# EAGLE library part FH12-9S-1SH (library eric-custom)
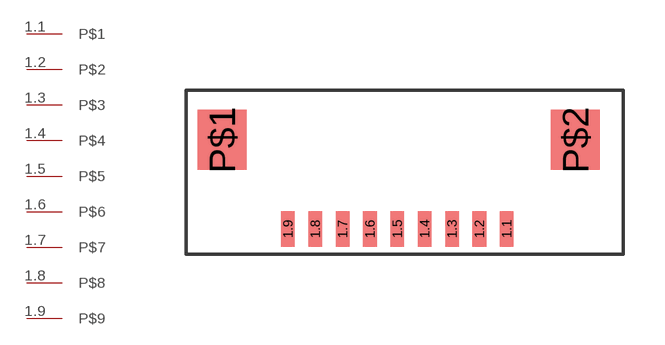
[diagram p20: symbol with the pads of FH12-9S-1SH; footprint FH12-9S-1SH]

Designator prefix -

## FH12-9S-1SH  [FH12-9S-1SH]
1.1  P$1
1.2  P$2
1.3  P$3
1.4  P$4
1.5  P$5
1.6  P$6
1.7  P$7
1.8  P$8
1.9  P$9

## Footprint FH12-9S-1SH (pad centres in mm)
smd 0.5 x 1.3: 1.1 3.73,-3.07; 1.2 2.73,-3.07; 1.3 1.73,-3.07; 1.4 0.73,-3.07; 1.5 -0.27,-3.07; 1.6 -1.27,-3.07; 1.7 -2.27,-3.07; 1.8 -3.27,-3.07; 1.9 -4.27,-3.07
smd 1.8 x 2.2: P$1 -6.68,0.18; P$2 6.24,0.18